# Altium footprint library VESC_POWER.PcbLib: 14 footprints
Each footprint in its own frame and in the unit in brackets; x right, y up, seen from the top. Pads: shape width x height; smd on the part's side, far side on the other; paste and mask are expansions set on the pad; w line width, h text height; cw(c..) or ccw(c..) is an arc to the next point about the centre after c.
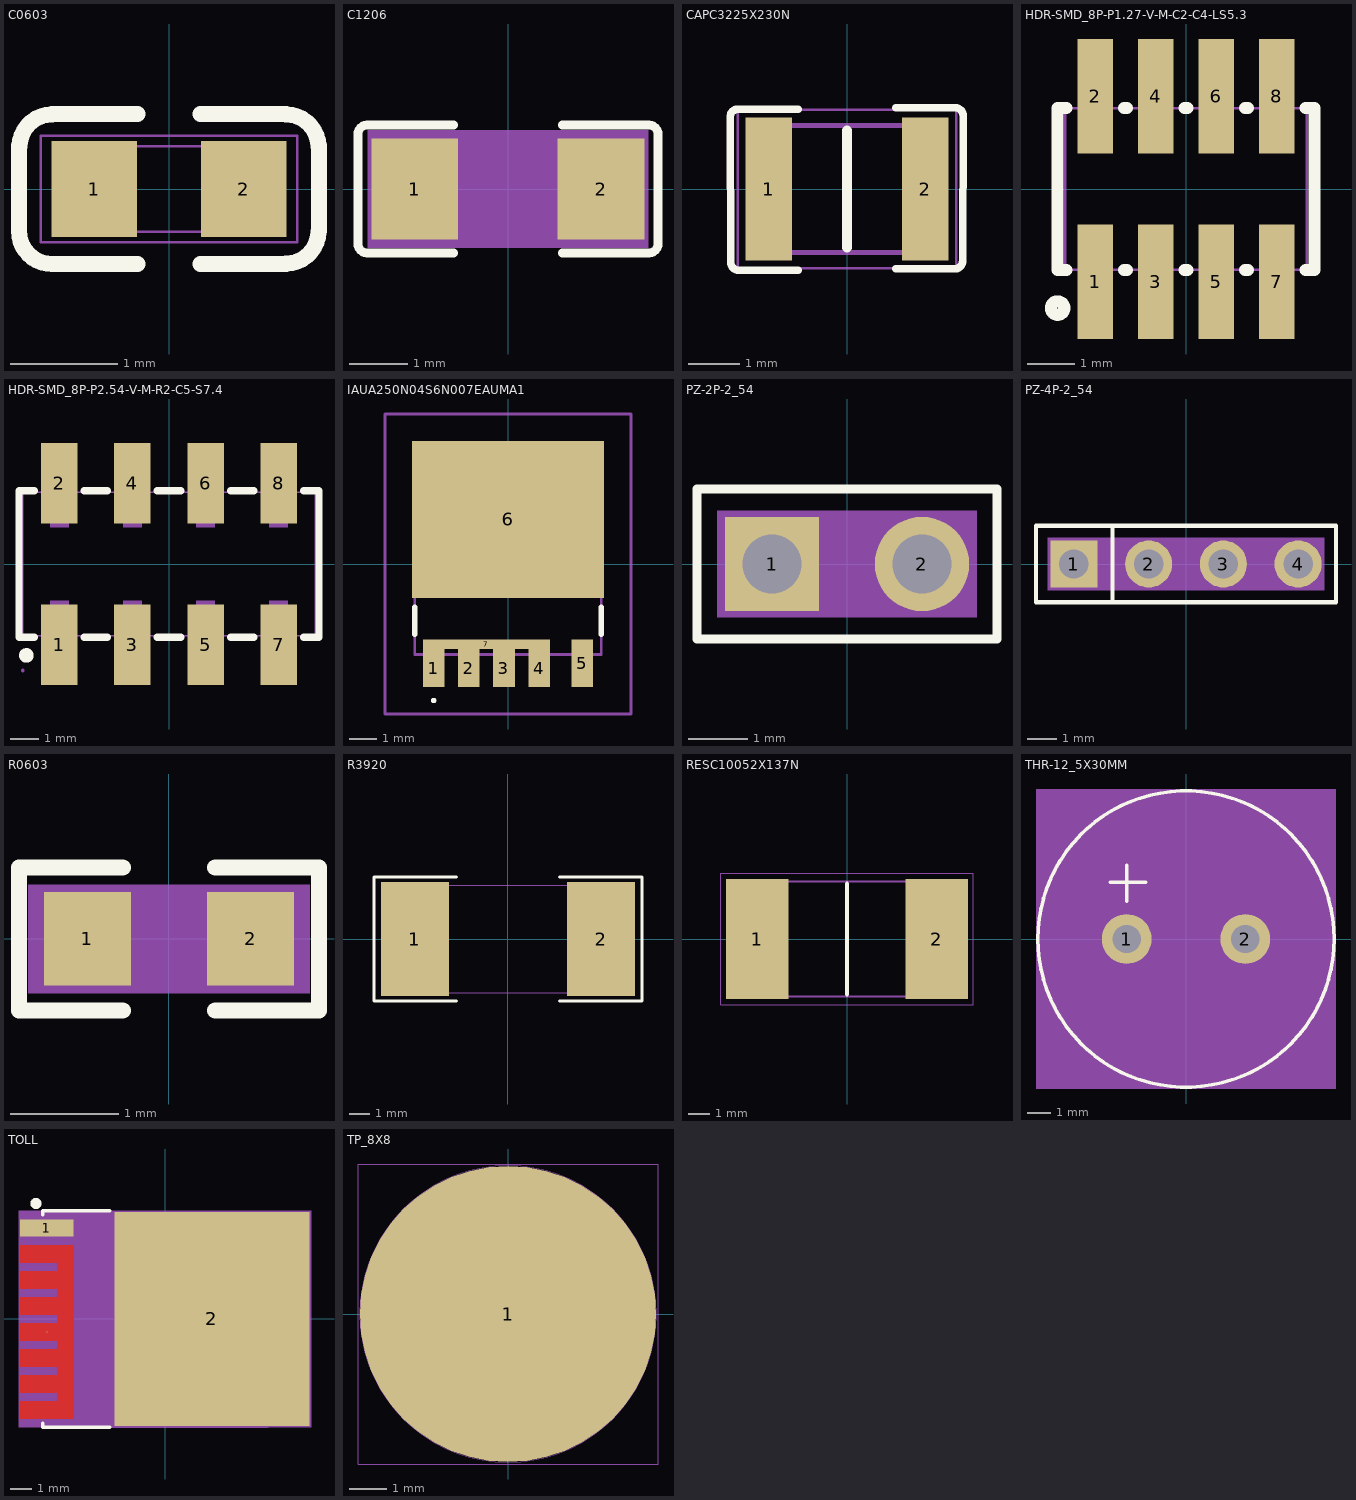
[diagram p0: the footprints below, top view; thin cyan lines are the x and y axes]

## C0603 [mm] "C0603"
pads (2):
  rect 0.8x0.9 smd: 1(-0.7,0) 2(0.7,0)
Top Overlay:
  lines w0.15: -1.405,0.406 -1.405,-0.394 ccw(c-1.096,-0.394) -1.096,-0.703 -0.296,-0.704 ; -1.4,0.4 cw(c-1.096,0.394) -1.096,0.698 ; -1.096,0.704 -0.296,0.704 ; 0.296,-0.704 1.096,-0.704 ; 0.296,0.704 1.096,0.704 ; 1.096,-0.698 ccw(c1.096,-0.394) 1.4,-0.4 ; 1.096,0.698 cw(c1.096,0.394) 1.4,0.4 ; 1.405,-0.394 1.405,0.406
Mechanical 7:
  lines w0.025: -1.2,-0.5 1.2,-0.5 1.2,0.5 -1.2,0.5 -1.2,-0.5
Mechanical 8:
  text "1" at -0.954,0 h0.64
  text "2" at 0.446,0 h0.64
Mechanical 9:
  lines w0.025: -0.8,-0.4 0.8,-0.4 0.8,0.4 -0.8,0.4 -0.8,-0.4
3D body "CAPC1608X90.STEP": height 0.9, standoff 0, extent -0.8,-0.405 0.8,0.405

## C1206 [mm] "C1206"
pads (2):
  rect 1.485x1.728 smd: 1(-1.593,0) 2(1.59,0)
Top Overlay:
  lines w0.15: -0.926,-1.093 -2.411,-1.093 cw(c-2.411,-0.94) -2.564,-0.94 -2.564,0.94 cw(c-2.411,0.94) -2.411,1.093 -0.926,1.093 ; 0.926,-1.093 2.411,-1.093 ccw(c2.411,-0.94) 2.564,-0.94 2.564,0.94 ccw(c2.411,0.94) 2.411,1.093 0.926,1.093
Mechanical 7:
  region: -2.4,-1 2.4,-1 2.4,1 -2.4,1
Mechanical 8:
  text "2" at 1.8,-0.808 h0.64
  text "1" at -1.5,-0.808 h0.64
Mechanical 9:
  lines w0.025: -1.6,-0.8 -1.6,0.8 1.6,0.8 1.6,-0.8 -1.6,-0.8
3D body: height 3.81, standoff 0, extent -2.4,-1 2.4,1

## CAPC3225X230N [mm]
pads (2):
  rect 0.92x2.82 smd: 1(-1.54,0) 2(1.54,0)
Top Overlay:
  lines w0.15: -0.96,-1.596 -2.133,-1.596 cw(c-2.133,-1.443) -2.286,-1.443 -2.297,1.418 cw(c-2.144,1.418) -2.144,1.571 -0.96,1.571 ; 0.96,-1.57 2.12,-1.57 ccw(c2.12,-1.417) 2.273,-1.417 2.284,1.444 ccw(c2.131,1.444) 2.131,1.597 0.96,1.597
  lines w0.2: 0,-1.15 0,1.15
Mechanical 15:
  lines w0.1: -1.6,-1.25 -1.6,1.25 1.6,1.25 1.6,-1.25 -1.6,-1.25
Mechanical 20:
  lines w0.05: -2.15,-1.56 -2.15,1.56 2.15,1.56 2.15,-1.56 -2.15,-1.56
3D body "C3225X7R2A106K250AC.stp": height 2.47, standoff -0.03, extent -1.6,-1.25 1.6,1.25

## HDR-SMD_8P-P1.27-V-M-C2-C4-LS5.3 [mm]
pads (8):
  rect 0.74x2.4 smd paste+0 mask+0.05: 1(-1.905,-1.95) 2(-1.905,1.95) 3(-0.635,-1.95) 4(-0.635,1.95) 5(0.635,-1.95) 6(0.635,1.95) 7(1.905,-1.95) 8(1.905,1.95)
Top Overlay:
  circle w0.254: c-2.695,-2.5 r0.141
  lines w0.254: -2.506,-1.7 -2.695,-1.7 -2.695,1.7 -2.506,1.7 ; -1.304,-1.7 -1.236,-1.7 ; -1.304,1.7 -1.236,1.7 ; -0.034,-1.7 0.034,-1.7 ; -0.034,1.7 0.034,1.7 ; 1.236,-1.7 1.304,-1.7 ; 1.236,1.7 1.304,1.7 ; 2.506,-1.7 2.695,-1.7 2.695,1.7 2.506,1.7
Mechanical 15:
  region: -2.48,-2.65 -2.481,-2.626 -2.516,-2.591 -2.565,-2.591 -2.599,-2.626 -2.6,-2.65 -2.599,-2.675 -2.564,-2.709 -2.515,-2.709 -2.481,-2.674 -2.48,-2.65
  region: -2.105,-1.15 -1.705,-1.15 -1.705,-2.65 -2.105,-2.65
  region: -2.105,2.65 -1.705,2.65 -1.705,1.15 -2.105,1.15
  region: -0.835,-1.15 -0.435,-1.15 -0.435,-2.65 -0.835,-2.65
  region: -0.835,2.65 -0.435,2.65 -0.435,1.15 -0.835,1.15
  region: 0.435,-1.15 0.835,-1.15 0.835,-2.65 0.435,-2.65
  region: 0.435,2.65 0.835,2.65 0.835,1.15 0.435,1.15
  region: 1.705,-1.15 2.105,-1.15 2.105,-2.65 1.705,-2.65
  region: 1.705,2.65 2.105,2.65 2.105,1.15 1.705,1.15
  lines w0.051: -2.54,-1.7 -2.54,1.7 2.54,1.7 2.54,-1.7 -2.54,-1.7
3D body "jsL2-H1.step": height 5.5, standoff 0, extent -2.54,-2.65 2.54,2.65

## HDR-SMD_8P-P2.54-V-M-R2-C5-S7.4 [mm]
pads (8):
  rect 1.27x2.8 smd: 1(-3.81,-2.8) 2(-3.81,2.8) 3(-1.27,-2.8) 4(-1.27,2.8) 5(1.27,-2.8) 6(1.27,2.8) 7(3.81,-2.8) 8(3.81,2.8)
Top Overlay:
  circle w0.254: c-4.953,-3.175 r0.127
  lines w0.254: -4.676,-2.54 -5.207,-2.54 -5.207,2.54 -4.676,2.54 ; -2.944,-2.54 -2.136,-2.54 ; -2.944,2.54 -2.136,2.54 ; -0.404,-2.54 0.404,-2.54 ; -0.404,2.54 0.404,2.54 ; 2.136,-2.54 2.944,-2.54 ; 2.136,2.54 2.944,2.54 ; 4.676,-2.54 5.207,-2.54 5.207,2.54 4.676,2.54
Mechanical 15:
  region: -5.02,-3.7 -5.021,-3.676 -5.056,-3.642 -5.104,-3.642 -5.139,-3.676 -5.14,-3.7 -5.139,-3.724 -5.104,-3.758 -5.056,-3.758 -5.021,-3.724 -5.02,-3.7
  region: 3.49,3.7 4.13,3.7 4.13,1.27 3.49,1.27
  region: 3.49,-1.27 4.13,-1.27 4.13,-3.7 3.49,-3.7
  region: 0.95,3.7 1.59,3.7 1.59,1.27 0.95,1.27
  region: 0.95,-1.27 1.59,-1.27 1.59,-3.7 0.95,-3.7
  region: -1.59,3.7 -0.95,3.7 -0.95,1.27 -1.59,1.27
  region: -1.59,-1.27 -0.95,-1.27 -0.95,-3.7 -1.59,-3.7
  region: -4.13,3.7 -3.49,3.7 -3.49,1.27 -4.13,1.27
  region: -4.13,-1.27 -3.49,-1.27 -3.49,-3.7 -4.13,-3.7
  lines w0.051: -5.08,-2.5 -5.08,2.5 5.08,2.5 5.08,-2.5 -5.08,-2.5

## IAUA250N04S6N007EAUMA1 [mm]
pads (7):
  rect 0.8x1.4 smd: 1(-2.75,-3.85) 2(-1.45,-3.85) 3(-0.15,-3.85) 4(1.15,-3.85)
  rect 0.8x1.75 smd: 5(2.75,-3.675)
  rect 7.1x5.8 smd: 6(0,1.65)
  rect 4.7x0.35 smd: 7(-0.8,-2.975)
Top Overlay:
  lines w0.1: -2.75,-5.1 ccw(c-2.75,-5.05) -2.75,-5 ccw(c-2.75,-5.05) -2.75,-5.1
  lines w0.2: -3.45,-2.6 -3.45,-1.6 ; 3.45,-2.6 3.45,-1.6
Mechanical 13:
  lines w0.1: -3.45,-3.35 -3.45,3.35 3.45,3.35 3.45,-3.35 -3.45,-3.35
Mechanical 15:
  lines w0.1: -4.55,-5.55 -4.55,5.55 4.55,5.55 4.55,-5.55 -4.55,-5.55
3D body "IAUA250N04S6N007EAUMA1.stp": height 2.3, standoff 0, extent -3.45,-3.95 3.45,4.05

## PZ-2P-2_54 [mm] "PZ-2P-2_54"
pads (2):
  rect 1.6x1.6 / inner round 0 / far side rect 1.6x1.6 hole 1: 1(-1.27,0)
  round 1.6 hole 1: 2(1.27,0)
Top Overlay:
  lines w0.152: -2.54,-1.27 -2.54,1.27 2.54,1.27 2.54,-1.27 -2.54,-1.27
Mechanical 7:
  region: -2.2,-0.9 2.2,-0.9 2.2,0.9 -2.2,0.9
Mechanical 8:
  text "2" at 1.54,0.208 h0.64
  text "1" at -1.06,0.208 h0.64
Mechanical 9:
  lines w0.01: -2.54,-1.27 -2.54,1.27 2.54,1.27 2.54,-1.27 -2.54,-1.27
3D body: height 3.81, standoff 0, extent -2.2,-0.9 2.2,0.9

## PZ-4P-2_54 [mm] "PZ-4P-2_54"
pads (4):
  rect 1.6x1.6 / inner round 0 / far side rect 1.6x1.6 hole 1: 1(-3.81,0)
  round 1.6 hole 1: 2(-1.27,0) 3(1.27,0) 4(3.81,0)
Top Overlay:
  lines w0.15: -2.5,-1.3 -2.5,1.3 ; -5.1,-1.3 5.1,-1.3 5.1,1.3 -5.1,1.3 -5.1,-1.3
Mechanical 7:
  region: -4.7,-0.9 4.7,-0.9 4.7,0.9 -4.7,0.9
Mechanical 8:
  text "3" at 1.4,-0.908 h0.64
  text "2" at -1,-0.808 h0.64
  text "1" at -3.6,-0.808 h0.64
  text "4" at 4,-0.908 h0.64
Mechanical 9:
  lines w0.025: -5.08,-1.27 5.08,-1.27 5.08,1.27 -5.08,1.27 -5.08,-1.27
3D body: height 3.81, standoff 0, extent -4.7,-0.9 4.7,0.9

## R0603 [mm] "R0603"
pads (2):
  rect 0.806x0.864 smd: 1(-0.753,0) 2(0.753,0)
Top Overlay:
  lines w0.15: -0.426,-0.661 -1.385,-0.661 -1.385,0.66 -0.426,0.66 ; 0.426,-0.661 1.385,-0.661 1.385,0.66 0.426,0.66
Mechanical 7:
  region: -1.3,-0.5 1.3,-0.5 1.3,0.5 -1.3,0.5
Mechanical 8:
  text "1" at -0.092,-0.2 h0.64
  text "2" at 1.508,-0.2 h0.64
Mechanical 9:
  lines w0.025: -0.8,-0.4 -0.8,0.4 0.8,0.4 0.8,-0.4 -0.8,-0.4
3D body "RESC1608X50.STEP": height 0.5, standoff 0, extent -0.787,-0.425 0.787,0.425

## R3920 [mm] "R3920"
pads (2):
  rect 3.3x5.5 smd: 1(-4.5,0) 2(4.5,0)
Top Overlay:
  lines w0.15: -2.5,-3 -6.477,-3 -6.477,3 -2.5,3 ; 2.5,-3 6.477,-3 6.477,3 2.5,3
Mechanical 8:
  text "1" at -4.3,0.408 h0.64
  text "2" at 4.7,0.408 h0.64
Mechanical 9:
  lines w0.025: -5,-2.6 5,-2.6 5,2.6 -5,2.6 -5,-2.6
3D body "CSS2H-3920R-L500FE.stp": height 1.37, standoff 0, extent -5,-2.625 5,2.625

## RESC10052X137N [mm]
pads (2):
  rect 2.85x5.5 smd: 1(-4.1,0) 2(4.1,0)
Top Overlay:
  lines w0.2: 0,-2.525 0,2.525
Mechanical 15:
  lines w0.1: -5,-2.625 -5,2.625 5,2.625 5,-2.625 -5,-2.625
Mechanical 20:
  lines w0.05: -5.775,-3 -5.775,3 5.775,3 5.775,-3 -5.775,-3
3D body "CSS2H-3920R-L500FE.stp": height 1.37, standoff 0, extent -5,-2.625 5,2.625

## THR-12_5X30MM [mm] "THR-12_5X30MM"
pads (2):
  round 2.1 hole 1.2: 1(-2.5,0) 2(2.5,0)
Top Overlay:
  circle w0.15: c0,0 r6.25
  lines w0.15: -3.2,2.4 -1.7,2.4 ; -2.5,1.6 -2.5,3.1
Mechanical 7:
  circle w0.025: c0,0 r6.25
  region: -6.325,-6.325 6.325,-6.325 6.325,6.325 -6.325,6.325
Mechanical 8:
  text "1" at -3.77,0.508 h0.64
  text "2" at 1.23,0.508 h0.64
Mechanical 9:
  circle w0.025: c0,0 r6.25
3D body: height 3.81, standoff 0, extent -6.325,-6.325 6.325,6.325

## TOLL [mm] "TOLL"
pads (4):
  rect 2.463x0.8 smd: 1(-5.469,4.2)
  rect 9x9.9 smd: 2(2.15,0)
  oct 0.025x0.025 smd: 3(-5.46,-0.6)
  round 0.025 smd: 3(-5.46,-0.6)
Top Layer:
  region: -6.691,3.4 -4.228,3.4 -4.228,-4.6 -6.691,-4.6 -6.691,-3.8 -4.991,-3.8 -4.991,-3.4 -6.691,-3.4 -6.691,-2.6 -4.991,-2.6 -4.991,-2.2 -6.691,-2.2 -6.691,-1.4 -4.991,-1.4 -4.991,-1 -6.691,-1 -6.691,-0.2 -4.991,-0.2 -4.991,0.2 -6.691,0.2 -6.691,1 -4.991,1 -4.991,1.4 -6.691,1.4 -6.691,2.2 -4.991,2.2 -4.991,2.6 -6.691,2.6
Top Overlay:
  circle w0.254: c-5.969,5.334 r0.127
  lines w0.15: -5.65,-4.8 -5.65,-5 -2.55,-5 ; -5.65,4.8 -5.65,5 -2.55,5
Top Paste:
  region: -6.691,3.4 -4.228,3.4 -4.228,-4.6 -6.691,-4.6 -6.691,-3.8 -4.991,-3.8 -4.991,-3.4 -6.691,-3.4 -6.691,-2.6 -4.991,-2.6 -4.991,-2.2 -6.691,-2.2 -6.691,-1.4 -4.991,-1.4 -4.991,-1 -6.691,-1 -6.691,-0.2 -4.991,-0.2 -4.991,0.2 -6.691,0.2 -6.691,1 -4.991,1 -4.991,1.4 -6.691,1.4 -6.691,2.2 -4.991,2.2 -4.991,2.6 -6.691,2.6
  region: -6.691,3.4 -4.228,3.4 -4.228,-4.6 -6.691,-4.6 -6.691,-3.8 -4.991,-3.8 -4.991,-3.4 -6.691,-3.4 -6.691,-2.6 -4.991,-2.6 -4.991,-2.2 -6.691,-2.2 -6.691,-1.4 -4.991,-1.4 -4.991,-1 -6.691,-1 -6.691,-0.2 -4.991,-0.2 -4.991,0.2 -6.691,0.2 -6.691,1 -4.991,1 -4.991,1.4 -6.691,1.4 -6.691,2.2 -4.991,2.2 -4.991,2.6 -6.691,2.6
Top Solder:
  region: -6.741,3.45 -4.178,3.45 -4.178,-4.65 -6.741,-4.65 -6.741,-3.75 -5.041,-3.75 -5.041,-3.45 -6.741,-3.45 -6.741,-2.55 -5.041,-2.55 -5.041,-2.25 -6.741,-2.25 -6.741,-1.35 -5.041,-1.35 -5.041,-1.05 -6.741,-1.05 -6.741,-0.15 -5.041,-0.15 -5.041,0.15 -6.741,0.15 -6.741,1.05 -5.041,1.05 -5.041,1.35 -6.741,1.35 -6.741,2.25 -5.041,2.25 -5.041,2.55 -6.741,2.55
  region: -6.741,3.45 -4.178,3.45 -4.178,-4.65 -6.741,-4.65 -6.741,-3.75 -5.041,-3.75 -5.041,-3.45 -6.741,-3.45 -6.741,-2.55 -5.041,-2.55 -5.041,-2.25 -6.741,-2.25 -6.741,-1.35 -5.041,-1.35 -5.041,-1.05 -6.741,-1.05 -6.741,-0.15 -5.041,-0.15 -5.041,0.15 -6.741,0.15 -6.741,1.05 -5.041,1.05 -5.041,1.35 -6.741,1.35 -6.741,2.25 -5.041,2.25 -5.041,2.55 -6.741,2.55
Mechanical 7:
  region: -6.75,-5 6.75,-5 6.75,5 -6.75,5
Mechanical 8:
  text "1" at -5.85,4.408 h0.64
  text "3" at -5.95,-0.392 h0.64
  text "2" at 2.15,-0.762 h0.64
Mechanical 9:
  lines w0.025: -5.65,-5 4.75,-5 4.75,5 -5.65,5 -5.65,-5
3D body "IAUT300N10S5N015ATMA1.stp": height 2.3, standoff 0, extent -6.041,-4.95 5.633,4.95

## TP_8X8 [mm] "TP_8X8"
pads (1):
  round 8 smd: 1(0,0)
Mechanical 7:
  circle w0.025: c0,0 r4
  lines w0.025: -4.05,-4.05 4.05,-4.05 4.05,4.05 -4.05,4.05 -4.05,-4.05
Mechanical 8:
  text "1" at -1.778,0 h0.64
Mechanical 9:
  circle w0.025: c0,0 r4